# Altium integrated library Linear Technology Power Management Switching Regulator LTC1174-LTC3901.IntLib: 2647 symbols (part 258 of 364)
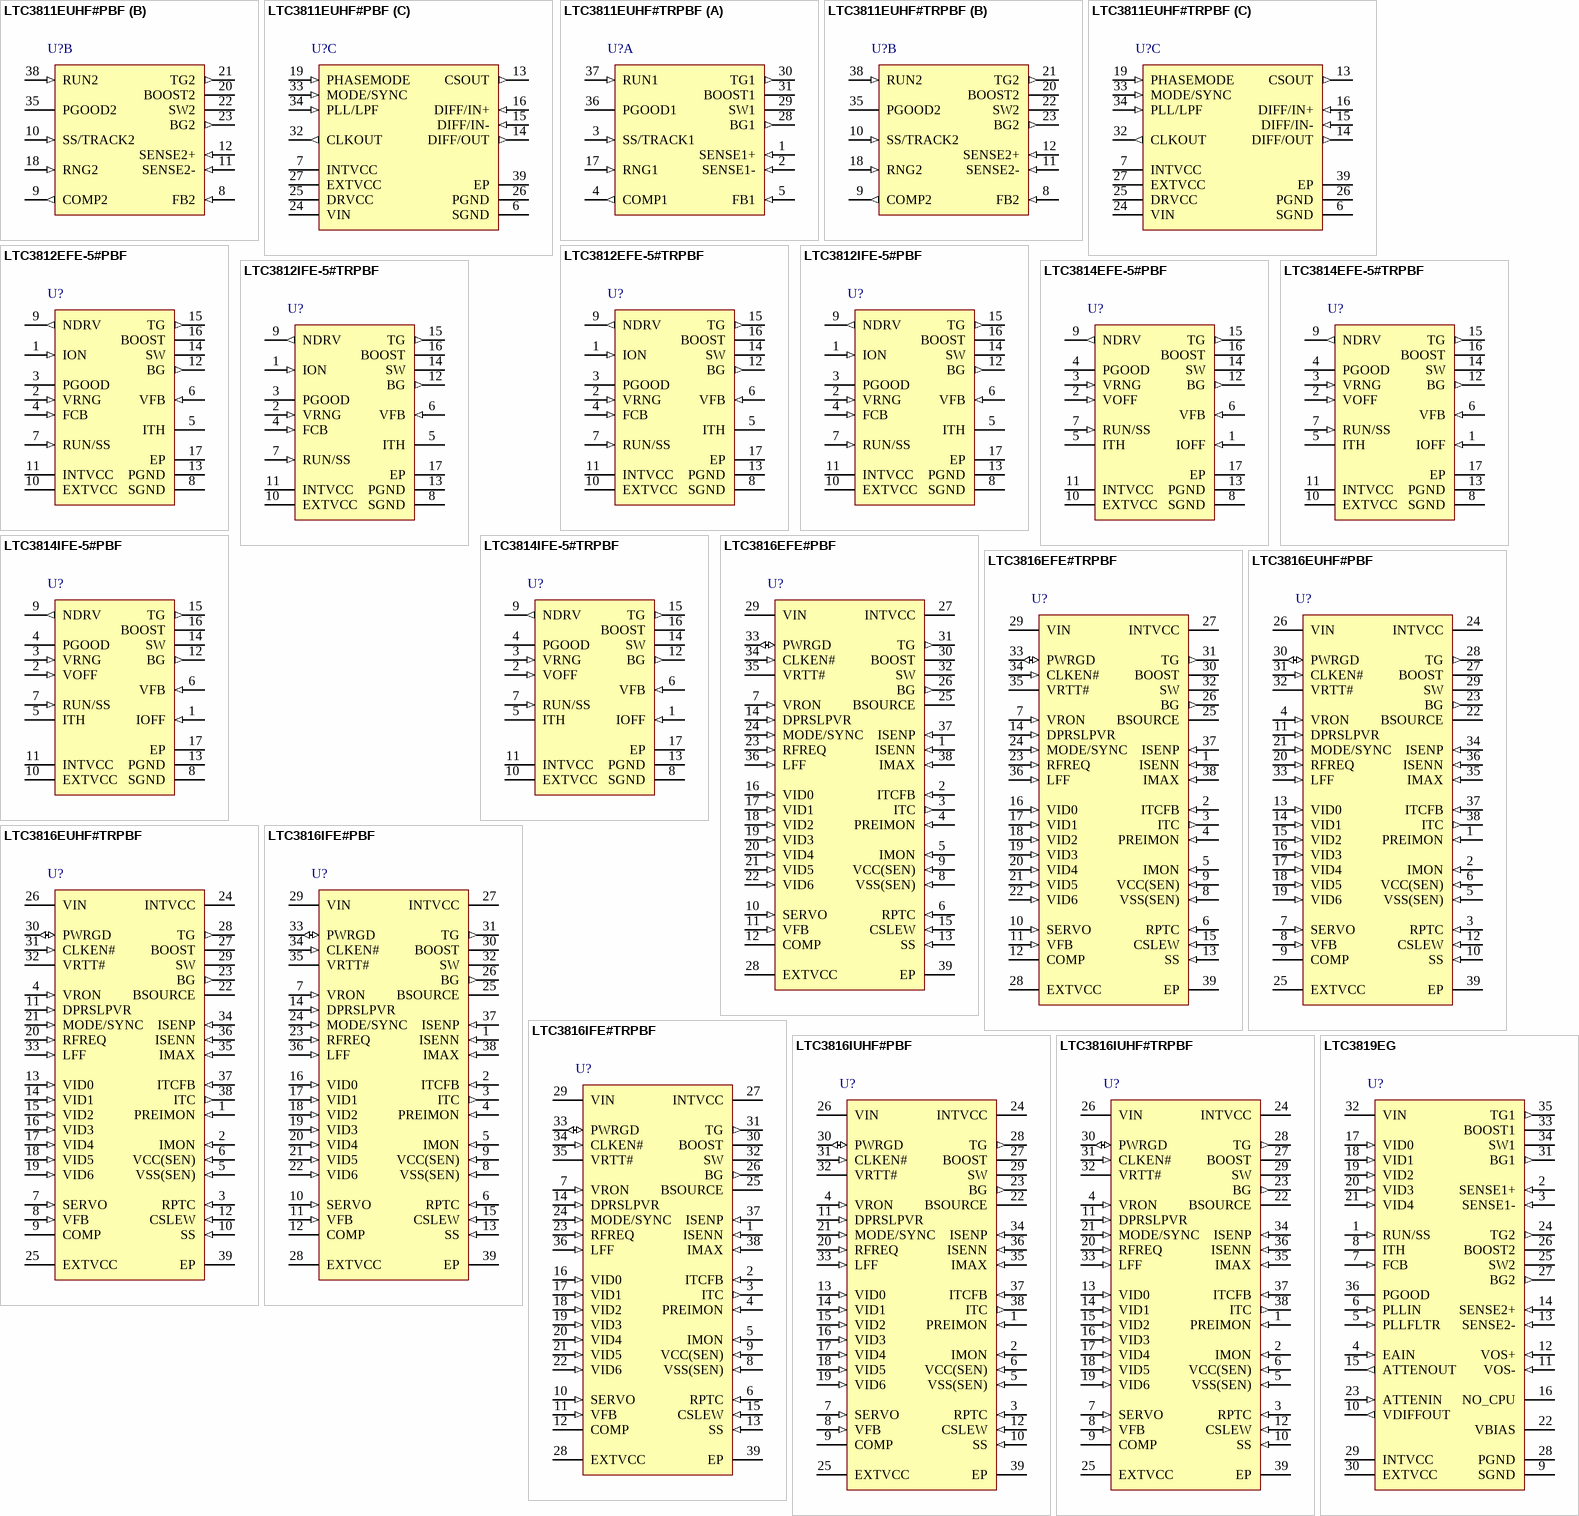
[diagram p348: symbols LTC3811EUHF#PBF to LTC3819EG]

## LTC3816IFE#PBF
designator U?
Single-Phase Wide VIN Range DC/DC Controller for Intel IMVP-6 / IMVP-6.5 CPUs, 38-pin SOP (FE-38-EPV-AA), -40 to 125 degC, Pb-Free; Manufacturer: Linear Technology; PartNumber: LTC3816IFE#PBF; Frequency Sync Range: 150kHz - 550kHz; Number of Outputs: 1; PackageVersion: Rev. C, 09/2010; PackageReference: FE-38; PackageDescription: 38-Pin Plastic TSSOP, Body 9.7 x 4.4 mm, Pitch 0.5 mm; Supplier 1: Digi-Key; Supplier Part Number 1: LTC3816IFE#PBF-ND; RoHS: TRUE; Mounting Technology: Surface Mount; ComponentLink1Description: Manufacturer URL; ComponentLink1URL: http://www.linear.com/; ComponentLink2Description: Datasheet; ComponentLink2URL: http://cds.linear.com/docs/en/datasheet/3816f.pdf; ComponentLink3Description: Package Specification; ComponentLink3URL: http://cds.linear.com/docs/en/packaging/TSSOP_38_05-08-1772.pdf
footprint LT-FE-38-EPV-AA_N (SOP, 38-Leads, Body 9.8x4.5mm, Pitch 0.5mm, Thermal Pad 4.75x2.74mm, IPC Medium Density)
footprint LT-FE-38-EPV-AA_L (SOP, 38-Leads, Body 9.8x4.5mm, Pitch 0.5mm, Thermal Pad 4.75x2.74mm, IPC High Density)
footprint LT-FE-38-EPV-AA_M (SOP, 38-Leads, Body 9.8x4.5mm, Pitch 0.5mm, Thermal Pad 4.75x2.74mm, IPC Low Density)
pins: 1 ISENN (in) "Current Sense Negative Input. Connect this pin to the negative terminal of the current sense resistor or the negative terminal of the inductor DCR lowpass filter.", 2 ITCFB (in) "Inductor DCR Temperature Compensation Amplifer Feedback Input. To derive the temperature compensated voltage dropped across the inductor DCR, connect a resistor from the SW node to this pin. An NTC network, in parallel with (See Datasheet)", 3 ITC (out) "Inductor DCR Temperature Compensation Amplifer Output. The IMON circuitry and the error amplifier obtain the temperature compensated DCR voltage through this amplifier.", 4 PREIMON (in) "IMON Current Output Setting. PREIMON is servoed to the ISENN potential. A resistor from PREIMON to ITC sets the IMON output current. For the IMVP-6 configuration, connect this pin to INTVCC.", 5 IMON (in) "IMVP-6/IMVP-6.5 Configuration Selection and Output Current Monitor. Connect this pin to INTVCC to select the IMVP-6 configuration. At start-up, the switcher VOUT is ramped to 1.2V (VBOOT). In deeper sleep mode, the (See Datasheet)", 6 RPTC (in) "Nonlinear PTC Thermistor Input. Connect to a nonlinear PTC thermistor for MOSFET or inductor temperature sensing. This pin is pulled up by a 100uA current source. If the potential at RPTC is higher than 0.47V, thermal flag (See Datasheet)", 7 VRON (in) "Voltage Regulator Enable Input. The VRON pin power-up threshold is 1.2V. When forced below 0.65V, a power-down sequence is initiated where the VCC(CORE) output is ramped down near 0V before the IC is put into a low current (See Datasheet)", 8 VSS(SEN) (in) "Processor VCC(CORE) Negative Terminal Voltage Sense. Negative input of the differential sense amplifier. Connect to the processor VSS(SEN) pin.", 9 VCC(SEN) (in) "Processor VCC(CORE) Positive Terminal Voltage Sense. Positive input of the differential sense amplifier. Connect to the processor VCC(SEN) pin.", 10 SERVO (in) "Error Amplifier AC Input. The controller servos the switcher output voltage to the VID DAC voltage through the error amplifier.", 11 VFB (in) "Error Amplifier Negative Input Pin. VFB is servoed to 1.3V.", 12 COMP "Error Amplifier Output. The COMP pin is connected directly to the error amplifier output and the input of the line feedforward circuit. Use an RC network between the COMP pin and the VFB pin to compensate the feedback loop (See Datasheet)", 13 SS (in) "Soft-Start Input. The SS pin has an internal 1uA current source pull-up. A capacitor connected to this pin controls the output voltage start-up. SS is forced low if VRON or PWRGD is low, or if an overvoltage or overcurrent (See Datasheet)", 14 DPRSLPVR (in) "Deeper Sleep Mode. For the IMVP-6 configuration, 25us after DPRSLPVR is asserted high, the controller enables the VOUT slow slew rate transition. To disable slow slew rate mode, force DPRSLPVR low. Upon power-up, the (See Datasheet)", 15 CSLEW (in) "VID DAC Slew Rate Control. CSLEW is internally pulled up by a current source. Add a capacitor to program the VID DAC transition slew rate. If slow slew rate is selected, a 100pF capacitor connected to CSLEW results in a VID (See Datasheet)", 16 VID0 (in) "VID DAC Voltage Control Logic Inputs. See Table 1.", 17 VID1 (in) "VID DAC Voltage Control Logic Inputs. See Table 1.", 18 VID2 (in) "VID DAC Voltage Control Logic Inputs. See Table 1.", 19 VID3 (in) "VID DAC Voltage Control Logic Inputs. See Table 1.", 20 VID4 (in) "VID DAC Voltage Control Logic Inputs. See Table 1.", 21 VID5 (in) "VID DAC Voltage Control Logic Inputs. See Table 1.", 22 VID6 (in) "VID DAC Voltage Control Logic Inputs. See Table 1.", 23 RFREQ (in) "Frequency Setting. The voltage on the RFREQ pin determines the free-running operating frequency. The RFREQ pin has an internal 10uA current source pull-up allowing the switching frequency to be programmed by a single (See Datasheet)", 24 MODE/SYNC (in) "Mode Select/Synchronization Input. This pin is pulled up by an internal 1uA current source. Floating this pin or shorting it to INTVCC enables pulse-skipping mode. Shorting this pin to ground configures forced continuous (See Datasheet)", 25 BSOURCE (power) "Bottom MOSFET Source. Connect this pin to the source of the bottom power MOSFET. Do not short BSOURCE to the LTC3816 exposed pad directly.", 26 BG (out) "Bottom Gate Drive. The BG pin drives the gate of the bottom N-channel synchronous switch MOSFET.", 27 INTVCC (power) "Output of the Internal Linear Low Dropout Regulator. The driver and control circuits are powered from this voltage source. The INTVCC pin must be decoupled to GND with a minimum 4.7uF low ESR ceramic capacitor (X5R or (See Datasheet)", 28 EXTVCC (power) "External Power Input to an Internal Switch Connected to INTVCC. This switch closes and supplies the IC power, bypassing the internal low dropout regulator, whenever EXTVCC is higher than 4.5V. Do not exceed 6V on this pin.", 29 VIN (power) "Main Supply Pin. A bypass capacitor should be connected from this pin to the GND pin.", 30 BOOST "Top Gate Driver Supply. The BOOST pin should be decoupled to the SW node with a 0.1uF low ESR (X5R or better) ceramic capacitor. An external Schottky diode from INTVCC to BOOST creates a complete floating charge-pumped (See Datasheet)", 31 TG (out) "Top Gate Drive. The TG pin drives the top N-channel MOSFET with a voltage swing equal to INTVCC superimposed on the switch node voltage.", 32 SW "Switching Node. Connect SW to the source of the upper power MOSFET and to the negative terminal of the BOOST pin decoupling capacitor", 33 PWRGD (io) "Open-Drain Power Good Output/ Power Bad Latchoff Input. PWRGD is an open-drain output pin and can be connected to other open-drain outputs to implement wire-ORing. PWRGD is externally pulled high 10ms after the output (See Datasheet)", 34 CLKEN# (in) "Open-Drain Clock Enable Indicator. 75us after VCC(CORE) reaches the VBOOT voltage, CLKEN# pulls low to enable the processor phase-locked loop.", 35 VRTT# (oc) "Open-Drain Output for Voltage Regulator Thermal Throttling. The VRTT# pin pulls low if the RPTC voltage exceeds 0.47V or if the control IC junction temperature exceeds 150degreesC.", 36 LFF (in) "Line Feedforward. This pin has a 1uA pull-up current source to INTVCC. Floating this pin or connecting it to INTVCC enables the line feedforward compensation. Connect this pin to GND to disable the line feedforward (See Datasheet)", 37 ISENP (in) "Current Sense Positive Input. Connect this pin to the positive terminal of the current sense resistor or to the output of the inductor DCR lowpass filter.", 38 IMAX (in) "Current Comparator Threshold Setting. The IMAX pin has an internal 10uA pull-up current source, allowing the current limit comparator threshold to be programmed by a single external resistor. The controller allows a (See Datasheet)", 39 EP (power) "Ground. The soft-start and slew rate control capacitors as well as the frequency setting and thermal shutdown resistors should return to this exposed pad ground pin. This GND pin should also be connected to the negative (See Datasheet)"